# EAGLE library part LT3501 (library IC)
Linear Technology Monolithic Dual Tracking 3A Step-Down Switching Regulator
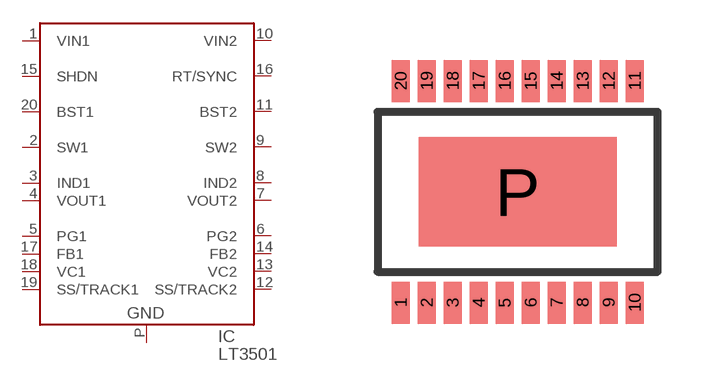
[diagram p163: symbol with the pads of TSSOP20_P; footprint TSSOP20_P]

Designator prefix IC

## LT3501FE  [TSSOP20_P]
1  VIN1  pwr
2  SW1
3  IND1
4  VOUT1  pwr
5  PG1
6  PG2
7  VOUT2  pwr
8  IND2
9  SW2
10  VIN2  pwr
11  BST2
12  SS/TRACK2
13  VC2
14  FB2
15  SHDN
16  RT/SYNC
17  FB1
18  VC1
19  SS/TRACK1
20  BST1
P  GND  pwr

## Footprint TSSOP20_P (pad centres in mm)
Linear TSSOP20 package with exposed pad
smd 0.45 x 1.05: 1 -2.925,-2.775; 2 -2.275,-2.775; 3 -1.625,-2.775; 4 -0.975,-2.775; 5 -0.325,-2.775; 6 0.325,-2.775; 7 0.975,-2.775; 8 1.625,-2.775; 9 2.275,-2.775; 10 2.925,-2.775; 11 2.925,2.775; 12 2.275,2.775; 13 1.625,2.775; 14 0.975,2.775; 15 0.325,2.775; 16 -0.325,2.775; 17 -0.975,2.775; 18 -1.625,2.775; 19 -2.275,2.775; 20 -2.925,2.775
smd 4.95 x 2.74: P 0,0